# EAGLE library part 87368-28 (library untitled)
RECEPTACAL
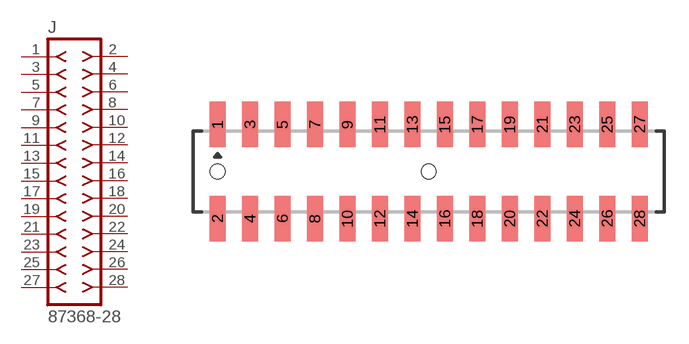
[diagram p193: symbol with the pads of 87368-28; footprint 87368-28]

Designator prefix J

## 87368-28  [87368-28]
1  1  pas
2  2  pas
3  3  pas
4  4  pas
5  5  pas
6  6  pas
7  7  pas
8  8  pas
9  9  pas
10  10  pas
11  11  pas
12  12  pas
13  13  pas
14  14  pas
15  15  pas
16  16  pas
17  17  pas
18  18  pas
19  19  pas
20  20  pas
21  21  pas
22  22  pas
23  23  pas
24  24  pas
25  25  pas
26  26  pas
27  27  pas
28  28  pas

## Footprint 87368-28 (pad centres in mm)
RECEPTACAL SMD Dual Row, Side Entry
smd 1 x 2.8: 1 -13,2.9; 2 -13,-2.9; 3 -11,2.9; 4 -11,-2.9; 5 -9,2.9; 6 -9,-2.9; 7 -7,2.9; 8 -7,-2.9; 9 -5,2.9; 10 -5,-2.9; 11 -3,2.9; 12 -3,-2.9; 13 -1,2.9; 14 -1,-2.9; 15 1,2.9; 16 1,-2.9; 17 3,2.9; 18 3,-2.9; 19 5,2.9; 20 5,-2.9; 21 7,2.9; 22 7,-2.9; 23 9,2.9; 24 9,-2.9; 25 11,2.9; 26 11,-2.9; 27 13,2.9; 28 13,-2.9
hole 0.914 at -13,0
hole 0.914 at 0,0